# EAGLE library part 1986ВЕ91Т (library mcu)
АЕЯР.431290.711 ТУ 1986ВЕ91Т - это 32-разрядный микроконтроллер на ядре Cortex-M3 с тактовой частотой до 80 МГц. Содержит 128 Кбайт Flash памяти программ и 32 Кбайта ОЗУ. Производитель: АО "ПКК "Миландр", г. Москва, Зеленоград. Технические условия: АЕЯР.431290.711 ТУ
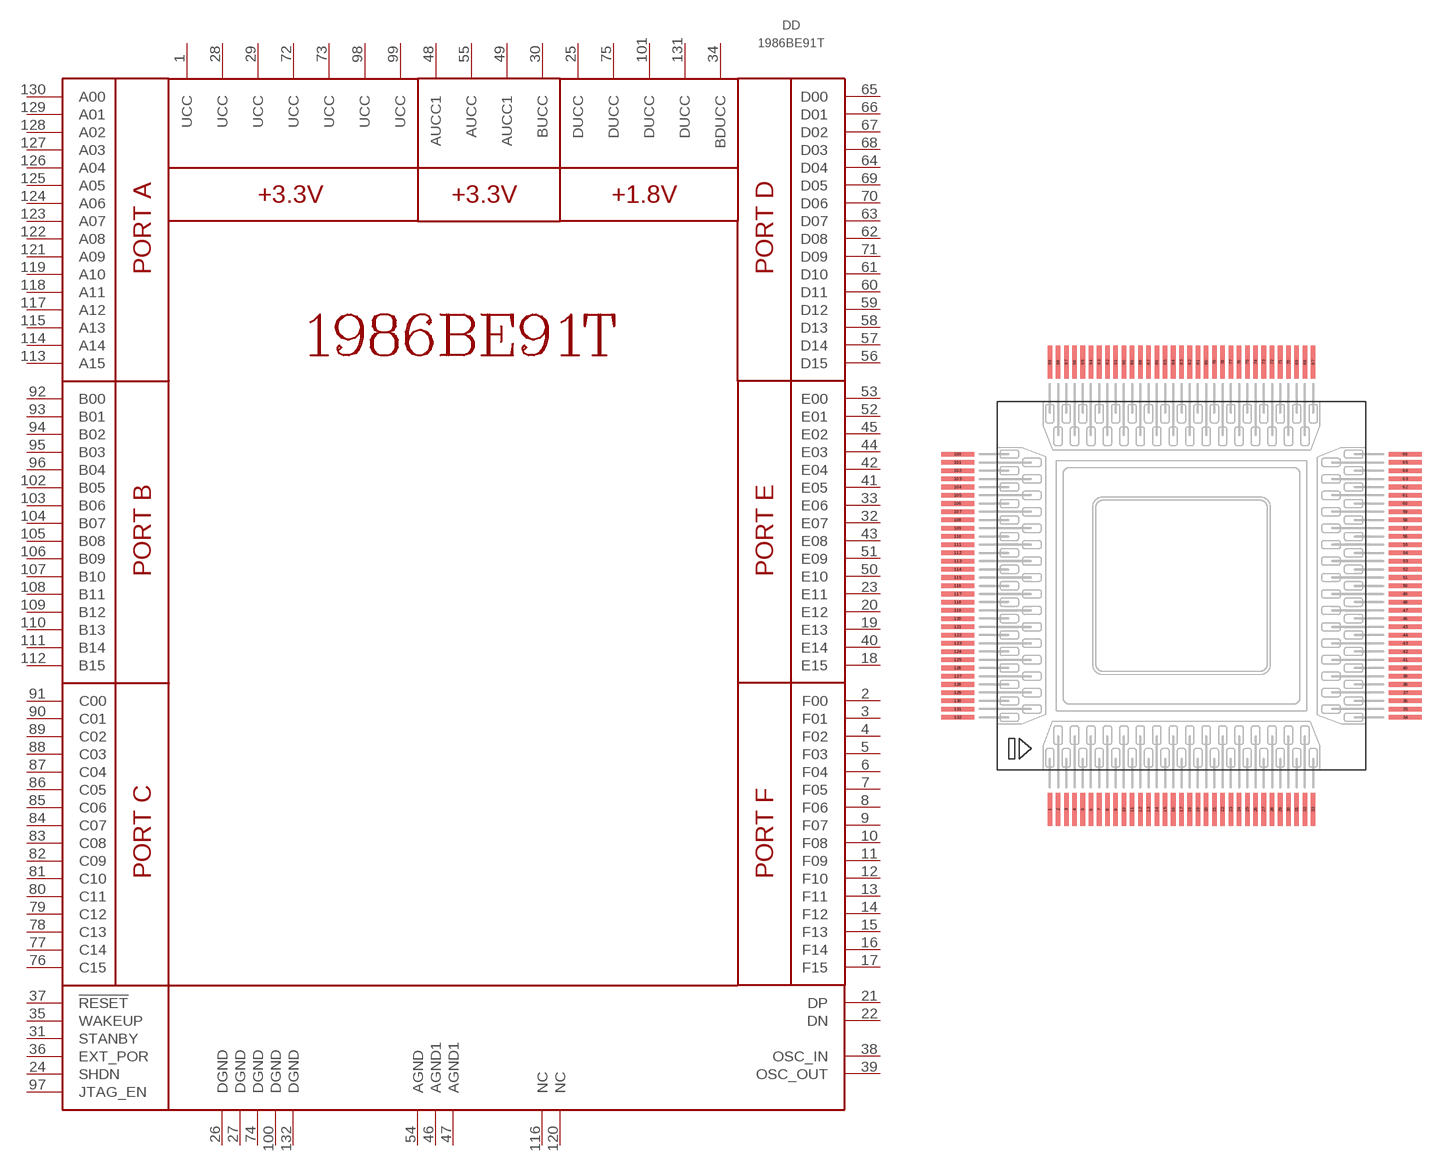
[diagram p0: symbol with the pads of 4229.132-3; footprint 4229.132-3]

Designator prefix DD

## 1986ВЕ91Т  [4229.132-3]
1  UCC  pwr
2  F00
3  F01
4  F02
5  F03
6  F04
7  F05
8  F06
9  F07
10  F08
11  F09
12  F10
13  F11
14  F12
15  F13
16  F14
17  F15
18  E15
19  E13
20  E12
21  DP
22  DN
23  E11
24  SHDN
25  DUCC  pwr
26  DGND  pwr
27  DGND  pwr
28  UCC  pwr
29  UCC  pwr
30  BUCC  pwr
31  STANBY
32  E07
33  E06
34  BDUCC  pwr
35  WAKEUP
36  EXT_POR
37  !RESET
38  OSC_IN
39  OSC_OUT
40  E14
41  E05
42  E04
43  E08
44  E03
45  E02
46  AGND1  pwr
47  AGND1  pwr
48  AUCC1  pwr
49  AUCC1  pwr
50  E10
51  E09
52  E01
53  E00
54  AGND  pwr
55  AUCC  pwr
56  D15
57  D14
58  D13
59  D12
60  D11
61  D10
62  D08
63  D07
64  D04
65  D00
66  D01
67  D02
68  D03
69  D05
70  D06
71  D09
72  UCC  pwr
73  UCC  pwr
74  DGND  pwr
75  DUCC  pwr
76  C15
77  C14
78  C13
79  C12
80  C11
81  C10
82  C09
83  C08
84  C07
85  C06
86  C05
87  C04
88  C03
89  C02
90  C01
91  C00
92  B00
93  B01
94  B02
95  B03
96  B04
97  JTAG_EN
98  UCC  pwr
99  UCC  pwr
100  DGND  pwr
101  DUCC  pwr
102  B05
103  B06
104  B07
105  B08
106  B09
107  B10
108  B11
109  B12
110  B13
111  B14
112  B15
113  A15
114  A14
115  A13
116  NC  nc
117  A12
118  A11
119  A10
120  NC  nc
121  A09
122  A08
123  A07
124  A06
125  A05
126  A04
127  A03
128  A02
129  A01
130  A00
131  DUCC  pwr
132  DGND  pwr

## Footprint 4229.132-3 (pad centres in mm)
smd 0.35 x 2.5: 1 -10,-17; 2 -9.375,-17; 3 -8.75,-17; 4 -8.125,-17; 5 -7.5,-17; 6 -6.875,-17; 7 -6.25,-17; 8 -5.625,-17; 9 -5,-17; 10 -4.375,-17; 11 -3.75,-17; 12 -3.125,-17; 13 -2.5,-17; 14 -1.875,-17; 15 -1.25,-17; 16 -0.625,-17; 17 0,-17; 18 0.625,-17; 19 1.25,-17; 20 1.875,-17; 21 2.5,-17; 22 3.125,-17; 23 3.75,-17; 24 4.375,-17; 25 5,-17; 26 5.625,-17; 27 6.25,-17; 28 6.875,-17; 29 7.5,-17; 30 8.125,-17; 31 8.75,-17; 32 9.375,-17; 33 10,-17; 67 10,17; 68 9.375,17; 69 8.75,17; 70 8.125,17; 71 7.5,17; 72 6.875,17; 73 6.25,17; 74 5.625,17; 75 5,17; 76 4.375,17; 77 3.75,17; 78 3.125,17; 79 2.5,17; 80 1.875,17; 81 1.25,17; 82 0.625,17; 83 0,17; 84 -0.625,17; 85 -1.25,17; 86 -1.875,17; 87 -2.5,17; 88 -3.125,17; 89 -3.75,17; 90 -4.375,17; 91 -5,17; 92 -5.625,17; 93 -6.25,17; 94 -6.875,17; 95 -7.5,17; 96 -8.125,17; 97 -8.75,17; 98 -9.375,17; 99 -10,17
smd 2.5 x 0.35: 34 17,-10; 35 17,-9.375; 36 17,-8.75; 37 17,-8.125; 38 17,-7.5; 39 17,-6.875; 40 17,-6.25; 41 17,-5.625; 42 17,-5; 43 17,-4.375; 44 17,-3.75; 45 17,-3.125; 46 17,-2.5; 47 17,-1.875; 48 17,-1.25; 49 17,-0.625; 50 17,0; 51 17,0.625; 52 17,1.25; 53 17,1.875; 54 17,2.5; 55 17,3.125; 56 17,3.75; 57 17,4.375; 58 17,5; 59 17,5.625; 60 17,6.25; 61 17,6.875; 62 17,7.5; 63 17,8.125; 64 17,8.75; 65 17,9.375; 66 17,10; 100 -17,10; 101 -17,9.375; 102 -17,8.75; 103 -17,8.125; 104 -17,7.5; 105 -17,6.875; 106 -17,6.25; 107 -17,5.625; 108 -17,5; 109 -17,4.375; 110 -17,3.75; 111 -17,3.125; 112 -17,2.5; 113 -17,1.875; 114 -17,1.25; 115 -17,0.625; 116 -17,0; 117 -17,-0.625; 118 -17,-1.25; 119 -17,-1.875; 120 -17,-2.5; 121 -17,-3.125; 122 -17,-3.75; 123 -17,-4.375; 124 -17,-5; 125 -17,-5.625; 126 -17,-6.25; 127 -17,-6.875; 128 -17,-7.5; 129 -17,-8.125; 130 -17,-8.75; 131 -17,-9.375; 132 -17,-10